# Altium footprint library VISHAY TSOP-6 MO-193C.PCBLIB: 1 footprints
Each footprint in its own frame and in the unit in brackets; x right, y up, seen from the top. Pads: shape width x height; smd on the part's side, far side on the other; paste and mask are expansions set on the pad; w line width, h text height; cw(c..) or ccw(c..) is an arc to the next point about the centre after c.
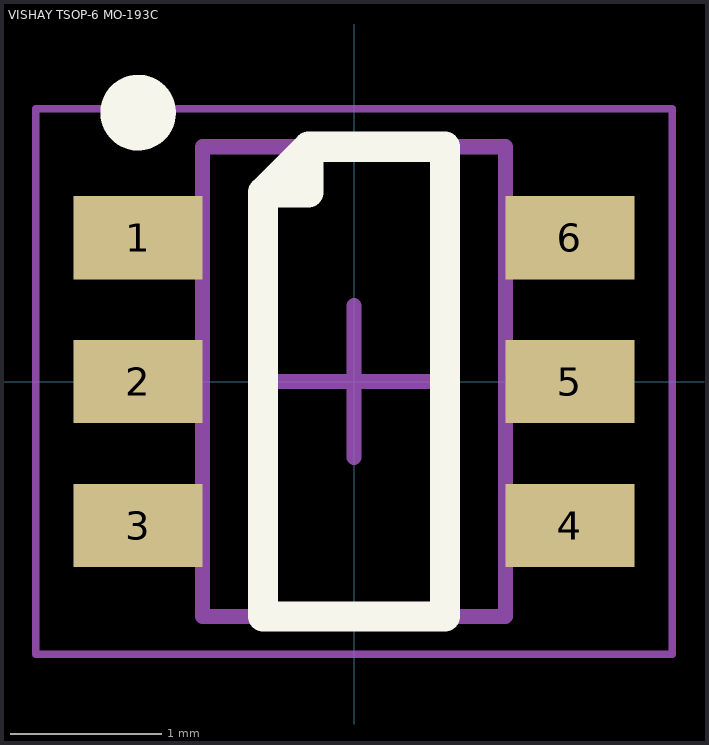
[diagram p0: the footprint, top view; thin cyan lines are the x and y axes]

## VISHAY TSOP-6 MO-193C [mm] "SOT23, 6-Leads, Body 3.03x2.84mm, Pitch 0.95mm, IPC Medium Density"
height 1.1
pads (6):
  rect 0.85x0.55 smd: 1(-1.425,0.95) 2(-1.425,0) 3(-1.425,-0.95) 4(1.425,-0.95) 5(1.425,0) 6(1.425,0.95)
Top Overlay:
  circle w0.25: c-1.425,1.775 r0.125
  lines w0.2: -0.6,1.25 -0.3,1.25 -0.3,1.55 ; -0.6,1.25 -0.6,-1.55 0.6,-1.55 0.6,1.55 -0.3,1.55 ; -0.6,1.25 -0.3,1.55
Mechanical 13:
  lines w0.1: -1,-1.55 -1,1.55 1,1.55 1,-1.55 -1,-1.55
Mechanical 15:
  lines w0.05: -2.1,-1.8 -2.1,1.8 2.1,1.8 2.1,-1.8 -2.1,-1.8
  lines w0.1: -0.5,0 0.5,0 ; 0,-0.5 0,0.5
3D body "sot-23-6-vishay.STEP": height 1.45, standoff 0, extent -1.435,-1.525 1.436,1.525